# Altium footprint library DP83867.PcbLib: 1 footprints
Each footprint in its own frame and in the unit in brackets; x right, y up, seen from the top. Pads: shape width x height; smd on the part's side, far side on the other; paste and mask are expansions set on the pad; w line width, h text height; cw(c..) or ccw(c..) is an arc to the next point about the centre after c.
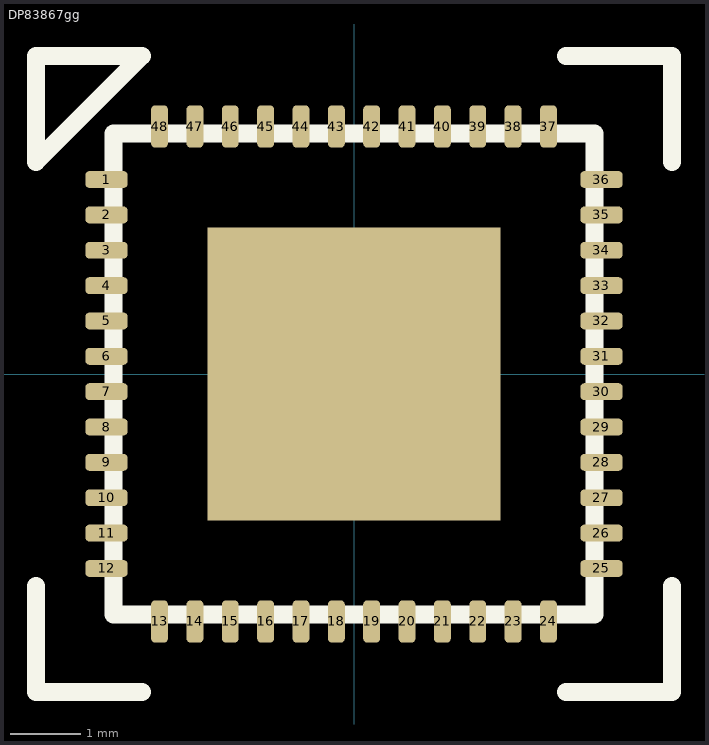
[diagram p0: the footprint, top view; thin cyan lines are the x and y axes]

## DP83867gg [mm]
pads (58):
  rrect50% 0.6x0.24 smd mask+0.08: 1(-3.5,2.75) 2(-3.5,2.25) 3(-3.5,1.75) 4(-3.5,1.25) 5(-3.5,0.75) 6(-3.5,0.25) 7(-3.5,-0.25) 8(-3.5,-0.75) 9(-3.5,-1.25) 10(-3.5,-1.75) 11(-3.5,-2.25) 12(-3.5,-2.75) 25(3.5,-2.75) 26(3.5,-2.25) 27(3.5,-1.75) 28(3.5,-1.25) 29(3.5,-0.75) 30(3.5,-0.25) 31(3.5,0.25) 32(3.5,0.75) 33(3.5,1.25) 34(3.5,1.75) 35(3.5,2.25) 36(3.5,2.75)
  rrect50% 0.24x0.6 smd mask+0.08: 13(-2.75,-3.5) 14(-2.25,-3.5) 15(-1.75,-3.5) 16(-1.25,-3.5) 17(-0.75,-3.5) 18(-0.25,-3.5) 19(0.25,-3.5) 20(0.75,-3.5) 21(1.25,-3.5) 22(1.75,-3.5) 23(2.25,-3.5) 24(2.75,-3.5) 37(2.75,3.5) 38(2.25,3.5) 39(1.75,3.5) 40(1.25,3.5) 41(0.75,3.5) 42(0.25,3.5) 43(-0.25,3.5) 44(-0.75,3.5) 45(-1.25,3.5) 46(-1.75,3.5) 47(-2.25,3.5) 48(-2.75,3.5)
  rrect50% 1.17x1.17 on Top Paste: ""(-1.37,-1.37) ""(-1.37,0) ""(-1.37,1.37) ""(0,-1.37) ""(0,0) ""(0,1.37) ""(1.37,-1.37) ""(1.37,0) ""(1.37,1.37)
  rect 4.15x4.15 smd paste-2539.97 mask+0.01: ""(0,0)
Top Overlay:
  lines w0.254: -4.5,-3 -4.5,-4.5 -3,-4.5 ; 3,-4.5 4.5,-4.5 4.5,-3 ; 3,4.5 4.5,4.5 4.5,3 ; -4.5,3 -3,4.5 -4.5,4.5 -4.5,3 ; -3.4,-3.4 3.4,-3.4 3.4,3.4 -3.4,3.4 -3.4,-3.4